# EAGLE library part PCA9554 (library joakim)
PCA9554 8bit I/O / port expander with interrupt Pin compatible with PCF8574 but requires software changes https://www.nxp.com/docs/en/data-sheet/PCA9500.pdf
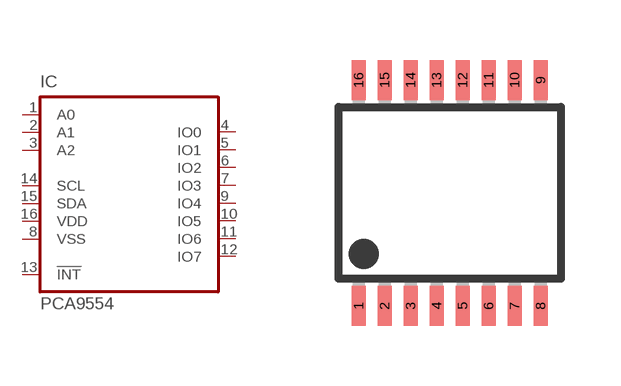
[diagram p74: symbol with the pads of TSSOP16J; footprint TSSOP16J]

Designator prefix IC

## PCA9554PW  [TSSOP16J]
1  A0
2  A1
3  A2
4  IO0
5  IO1
6  IO2
7  IO3
8  VSS  pwr
9  IO4
10  IO5
11  IO6
12  IO7
13  !INT
14  SCL
15  SDA
16  VDD  pwr

## Footprint TSSOP16J (pad centres in mm)
16-Lead Plastic Thin Shrink Small Outline (ST) - 4.4 mm Body TSSOP Source: http://ww1.microchip.com/downloads/en/DeviceDoc/40039E.pdf
smd 0.35 x 1: 1 -2.268,-2.825; 2 -1.617,-2.825; 3 -0.968,-2.825; 4 -0.318,-2.825; 5 0.333,-2.825; 6 0.983,-2.825; 7 1.633,-2.825; 8 2.283,-2.825; 9 2.283,2.825; 10 1.633,2.825; 11 0.983,2.825; 12 0.333,2.825; 13 -0.318,2.825; 14 -0.968,2.825; 15 -1.617,2.825; 16 -2.268,2.825